# Altium schematic symbol library Conn_40P_A.SchLib: 1 symbol
Pins are listed as number, name and electrical type; pins without a type are passive.

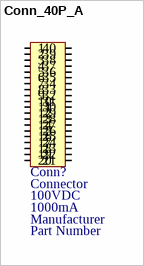
[diagram p0: symbol Conn_40P_A]

## Conn_40P_A
designator Conn?, comment Connector  Voltage: 100VDC  Current: 1000mA
Case fan socket.; Manufacturer: Manufacturer; Part Number: Part Number
footprint Conn_Zif_Socket
pins: 1 "Voltage Supply", 2 "Voltage Supply", 3 "Voltage Supply", 4 "Voltage Supply", 5 "Voltage Supply", 6 "Voltage Supply", 7 "Voltage Supply", 8 "Voltage Supply", 9 "Voltage Supply", 10 "Voltage Supply", 11 "Voltage Supply", 12 "Voltage Supply", 13 "Voltage Supply", 14 "Voltage Supply", 15 "Voltage Supply", 16 "Voltage Supply", 17 "Voltage Supply", 18 "Voltage Supply", 19 "Voltage Supply", 20 "Voltage Supply", 21 "Voltage Supply", 22 "Voltage Supply", 23 "Voltage Supply", 24 "Voltage Supply", 25 "Voltage Supply", 26 "Voltage Supply", 27 "Voltage Supply", 28 "Voltage Supply", 29 "Voltage Supply", 30 "Voltage Supply", 31 "Voltage Supply", 32 "Voltage Supply", 33 "Voltage Supply", 34 "Voltage Supply", 35 "Voltage Supply", 36 "Voltage Supply", 37 "Voltage Supply", 38 "Voltage Supply", 39 "Voltage Supply", 40 "Voltage Supply"